# EAGLE library part SSSS820101 (library TheMaker_v5)
Slide Switches 2-pole 2-positions ALPS SSSS820101 RS 123-8934
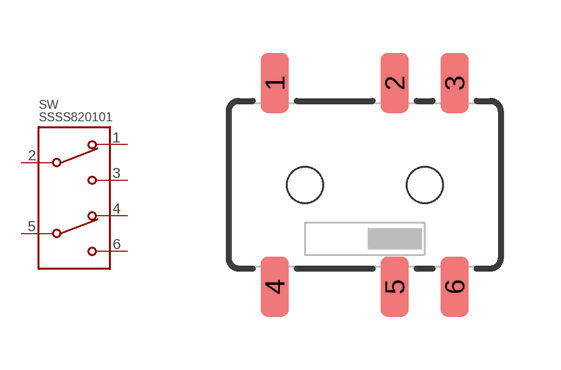
[diagram p10: symbol with the pads of SSSS820101; footprint SSSS820101]

Designator prefix SW

## SSSS820101  [SSSS820101]
1  1
2  2
3  3
4  4
5  5
6  6

## Footprint SSSS820101 (pad centres in mm)
Slide Switches 2-pole 2-positions ALPS SSSS820101 RS 123-8934
smd 0.7 x 1.5: 1 -2.25,2.55; 2 0.75,2.55; 3 2.25,2.55; 4 -2.25,-2.55; 5 0.75,-2.55; 6 2.25,-2.55
hole 0.9 at -1.5,0
hole 0.9 at 1.5,0